# Altium footprint library RESCAV50P200X100X55-8N.PcbLib: 1 footprints
Each footprint in its own frame and in the unit in brackets; x right, y up, seen from the top. Pads: shape width x height; smd on the part's side, far side on the other; paste and mask are expansions set on the pad; w line width, h text height; cw(c..) or ccw(c..) is an arc to the next point about the centre after c.
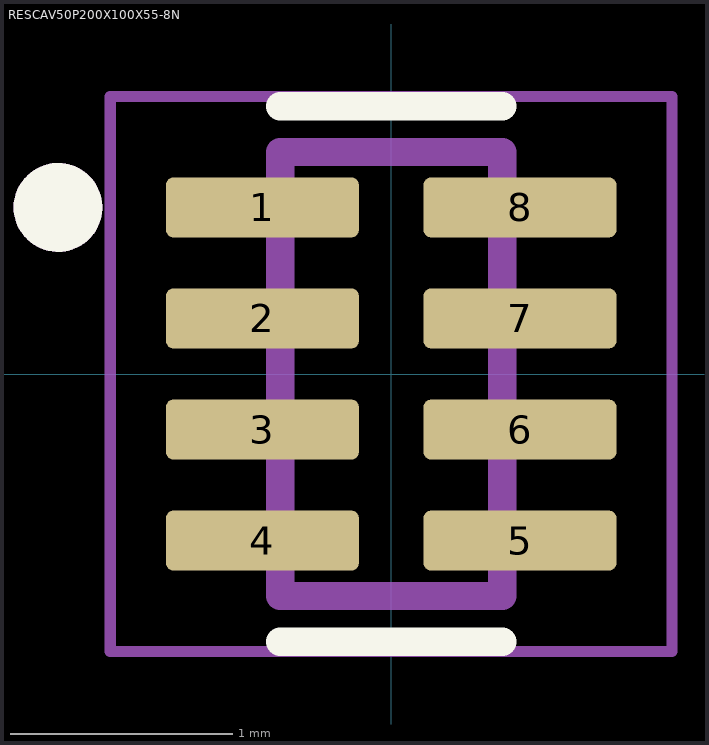
[diagram p0: the footprint, top view; thin cyan lines are the x and y axes]

## RESCAV50P200X100X55-8N [mm]
pads (8):
  rrect25% 0.87x0.27 smd: 1(-0.58,0.75) 2(-0.58,0.25) 3(-0.58,-0.25) 4(-0.58,-0.75) 5(0.58,-0.75) 6(0.58,-0.25) 7(0.58,0.25) 8(0.58,0.75)
Top Overlay:
  circle w0.2: c-1.5,0.75 r0.1
  lines w0.127: -0.5,-1.205 0.5,-1.205 ; -0.5,1.205 0.5,1.205
Mechanical 13:
  circle w0.2: c-1.5,0.75 r0.1
  lines w0.127: -0.5,-1 0.5,-1 0.5,1 -0.5,1 -0.5,-1
Mechanical 15:
  lines w0.05: -1.265,-1.25 1.265,-1.25 1.265,1.25 -1.265,1.25 -1.265,-1.25
3D body "RESNET - 0804 Concave.step": height 0.51, standoff 0, extent -0.525,-1.025 0.525,1.025